# Altium footprint library electromechanical.PcbLib: 7 footprints
Each footprint in its own frame and in the unit in brackets; x right, y up, seen from the top. Pads: shape width x height; smd on the part's side, far side on the other; paste and mask are expansions set on the pad; w line width, h text height; cw(c..) or ccw(c..) is an arc to the next point about the centre after c.
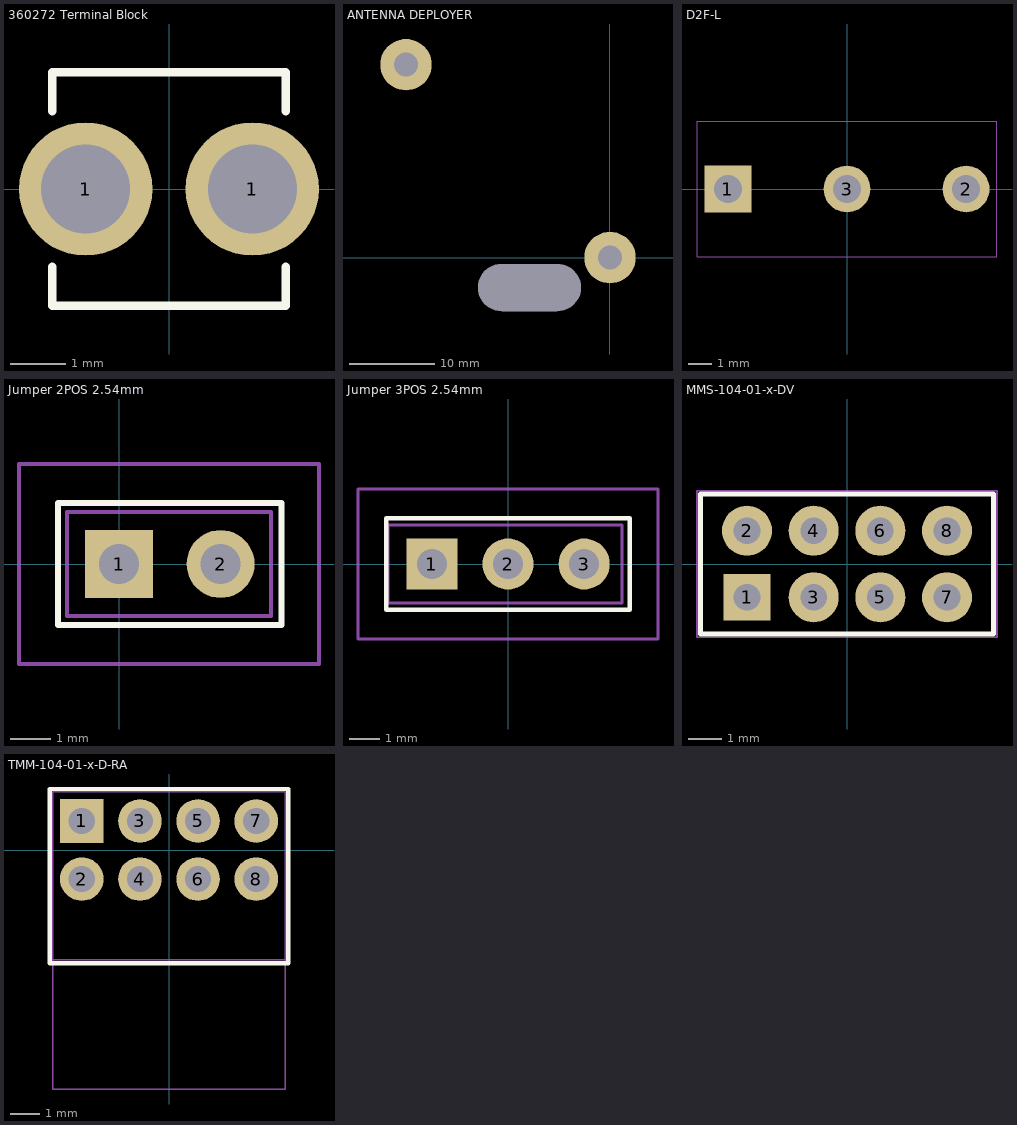
[diagram p0: the footprints below, top view; thin cyan lines are the x and y axes]

## 360272 Terminal Block [mm]
pads (2):
  round 2.4 hole 1.6: 1(-1.5,0) 1(1.5,0)
Top Overlay:
  lines w0.15: -2.1,-1.4 -2.1,-2.1 2.1,-2.1 2.1,-1.4 ; -2.1,1.4 -2.1,2.1 2.1,2.1 2.1,1.4
3D body: height 6, standoff 0, extent 3.5,1 3.5,1
3D body: height 6, standoff 0, extent -2,-2 2,2
3D body: height 6, standoff 0, extent 1.5,5 1.5,5
3D body: height 0, standoff -3.5, extent -2,-0.5 -1,0.5
3D body: height 0, standoff -3.5, extent 1,-0.5 2,0.5

## ANTENNA DEPLOYER [mm]
pads (3):
  round 6 hole 2.8: ""(-23.8,22.5) ""(0,0)
  round 0 hole 5.5 slot 12 at 0 deg unplated: ""(-9.4,-3.5)

## D2F-L [mm]
pads (3):
  rect 2x2 hole 1.2: 1(-5.08,0)
  round 2 hole 1.2: 2(5.08,0) 3(0,0)
Mechanical 15:
  lines w0.05: -6.4,-2.9 -6.4,2.9 6.4,2.9 6.4,-2.9 -6.4,-2.9
3D body "D2F_L.STEP": height 11.51, standoff -3.49, extent -6.4,-2.9 6.734,2.9

## Jumper 2POS 2.54mm [mm] "CONN HEADER VERT 2POS 2.54MM"
height 10
pads (2):
  rect 1.7x1.7 hole 1: 1(0,0)
  round 1.7 hole 1: 2(2.54,0)
Top Overlay:
  lines w0.15: -1.524,-1.524 -1.524,1.524 4.064,1.524 4.064,-1.524 -1.524,-1.524
Top Assembly:
  lines w0.1: -1.3,-1.3 -1.3,1.3 3.8,1.3 3.8,-1.3 -1.3,-1.3
Top Courtyard:
  lines w0.1: -2.5,-2.5 -2.5,2.5 5,2.5 5,-2.5 -2.5,-2.5
3D body "TSW-101-23-G-D.stp": height 8.38, standoff -2.92, extent -1.27,-1.27 3.81,1.27

## Jumper 3POS 2.54mm [mm] "CONN HEADER VERT 3POS 2.54MM"
height 10
pads (3):
  rect 1.7x1.7 hole 1: 1(-2.54,0)
  round 1.7 hole 1: 2(0,0) 3(2.54,0)
Top Overlay:
  lines w0.15: -4.064,-1.524 -4.064,1.524 4.064,1.524 4.064,-1.524 -4.064,-1.524
Top Assembly:
  lines w0.1: -4,-1.3 3.8,-1.3 3.8,1.3 -4,1.3 -4,-1.3
Top Courtyard:
  lines w0.1: -5,-2.5 -5,2.5 5,2.5 5,-2.5 -5,-2.5
3D body "TSW-103-07-F-S.stp": height 8.38, standoff -2.54, extent -3.937,-1.27 3.81,1.27

## MMS-104-01-x-DV [mm]
pads (8):
  rect 1.4x1.4 hole 0.8: 1(-3,-1)
  round 1.5 hole 0.8: 2(-3,1) 3(-1,-1) 4(-1,1) 5(1,-1) 6(1,1) 7(3,-1) 8(3,1)
Top Overlay:
  lines w0.15: -4.4,-2.1 -4.4,2.1 4.4,2.1 4.4,-2.1 -4.4,-2.1
Mechanical 15:
  lines w0.05: -4.5,-2.2 4.5,-2.2 4.5,2.2 -4.5,2.2 -4.5,-2.2
3D body "MMS-104-01-F-DV.stp": height 4.44, standoff -2.92, extent -4.277,-1.999 4.277,1.999

## TMM-104-01-x-D-RA [mm]
pads (8):
  rect 1.5x1.5 hole 0.9: 1(-3,1)
  round 1.5 hole 0.9: 2(-3,-1) 3(-1,1) 4(-1,-1) 5(1,1) 6(1,-1) 7(3,1) 8(3,-1)
Top Overlay:
  lines w0.15: -4.1,-3.9 4.1,-3.9 4.1,2.1 -4.1,2.1 -4.1,-3.9
Mechanical 15:
  lines w0.05: -4,-3.77 4,-3.77 ; -4,-8.22 -4,2 4,2 4,-8.22 -4,-8.22
3D body "TMM-104-01-T-D-RA.stp": height 3.95, standoff -3.04, extent -4,-6.969 4,1.254